# EAGLE library part S25FLSXXX (library Synapseware-transistors)
S25FL128S and S25FL256S S25FL128S 128 Mbit (16 Mbyte) S25FL256S 256 Mbit (32 Mbyte) MirrorBit ® Flash Non-Volatile Memory CMOS 3.0 Volt Core with Versatile I/O Serial Peripheral Interface with Multi-I/O
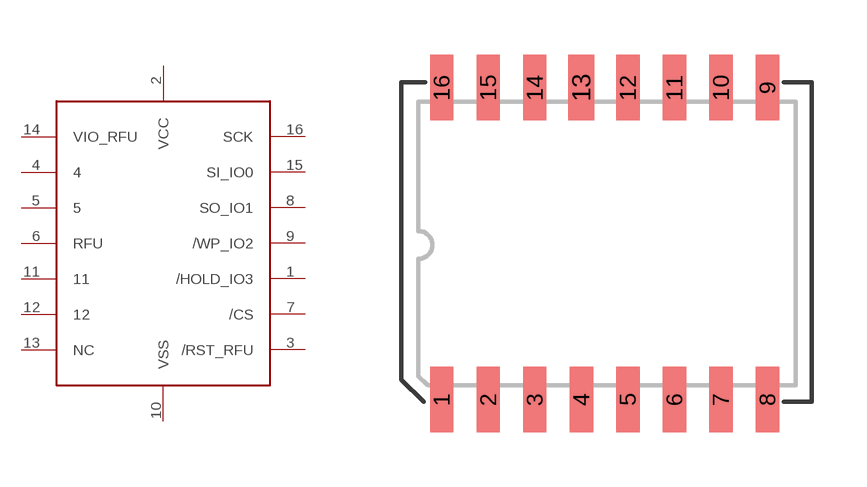
[diagram p20: symbol with the pads of WSOIC-16; footprint WSOIC-16]

Designator prefix -

## S25FLSXXX  [WSOIC-16]
1  /HOLD_IO3
2  VCC
3  /RST_RFU
4  4
5  5
6  RFU
7  /CS
8  SO_IO1
9  /WP_IO2
10  VSS
11  11
12  12
13  NC
14  VIO_RFU
15  SI_IO0
16  SCK

## Footprint WSOIC-16 (pad centres in mm)
smd 0.635 x 1.778: 1 -4.445,-4.191; 2 -3.175,-4.191; 3 -1.905,-4.191; 4 -0.635,-4.191; 5 0.635,-4.191; 6 1.905,-4.191; 7 3.175,-4.191; 8 4.445,-4.191; 9 4.445,4.318; 10 3.175,4.318; 11 1.905,4.318; 12 0.635,4.318; 14 -1.905,4.318; 15 -3.175,4.318; 16 -4.445,4.318
smd 0.711 x 1.778: 13 -0.635,4.318